# EAGLE library part PT4101_PT4101 (library Blueberry Pi)
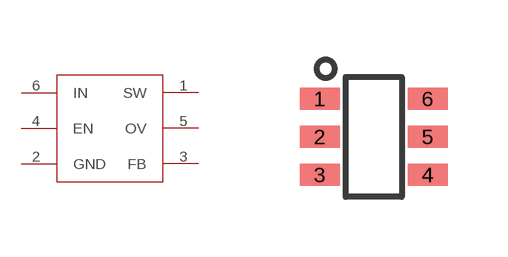
[diagram p5: symbol with the pads of PT4101_SOT23-6; footprint PT4101_SOT23-6]

Designator prefix -

## PT4101_PT4101  [PT4101_SOT23-6]
1  SW
2  GND
3  FB
4  EN
5  OV
6  IN

## Footprint PT4101_SOT23-6 (pad centres in mm)
Small Outline Transistor 6 lead
smd 1 x 0.55: 1 -1.35,0.95; 2 -1.35,0; 3 -1.35,-0.95; 4 1.35,-0.95; 5 1.35,0; 6 1.35,0.95